# Altium footprint library Tag201_Rev4.PcbLib: 11 footprints
Each footprint in its own frame and in the unit in brackets; x right, y up, seen from the top. Pads: shape width x height; smd on the part's side, far side on the other; paste and mask are expansions set on the pad; w line width, h text height; cw(c..) or ccw(c..) is an arc to the next point about the centre after c.
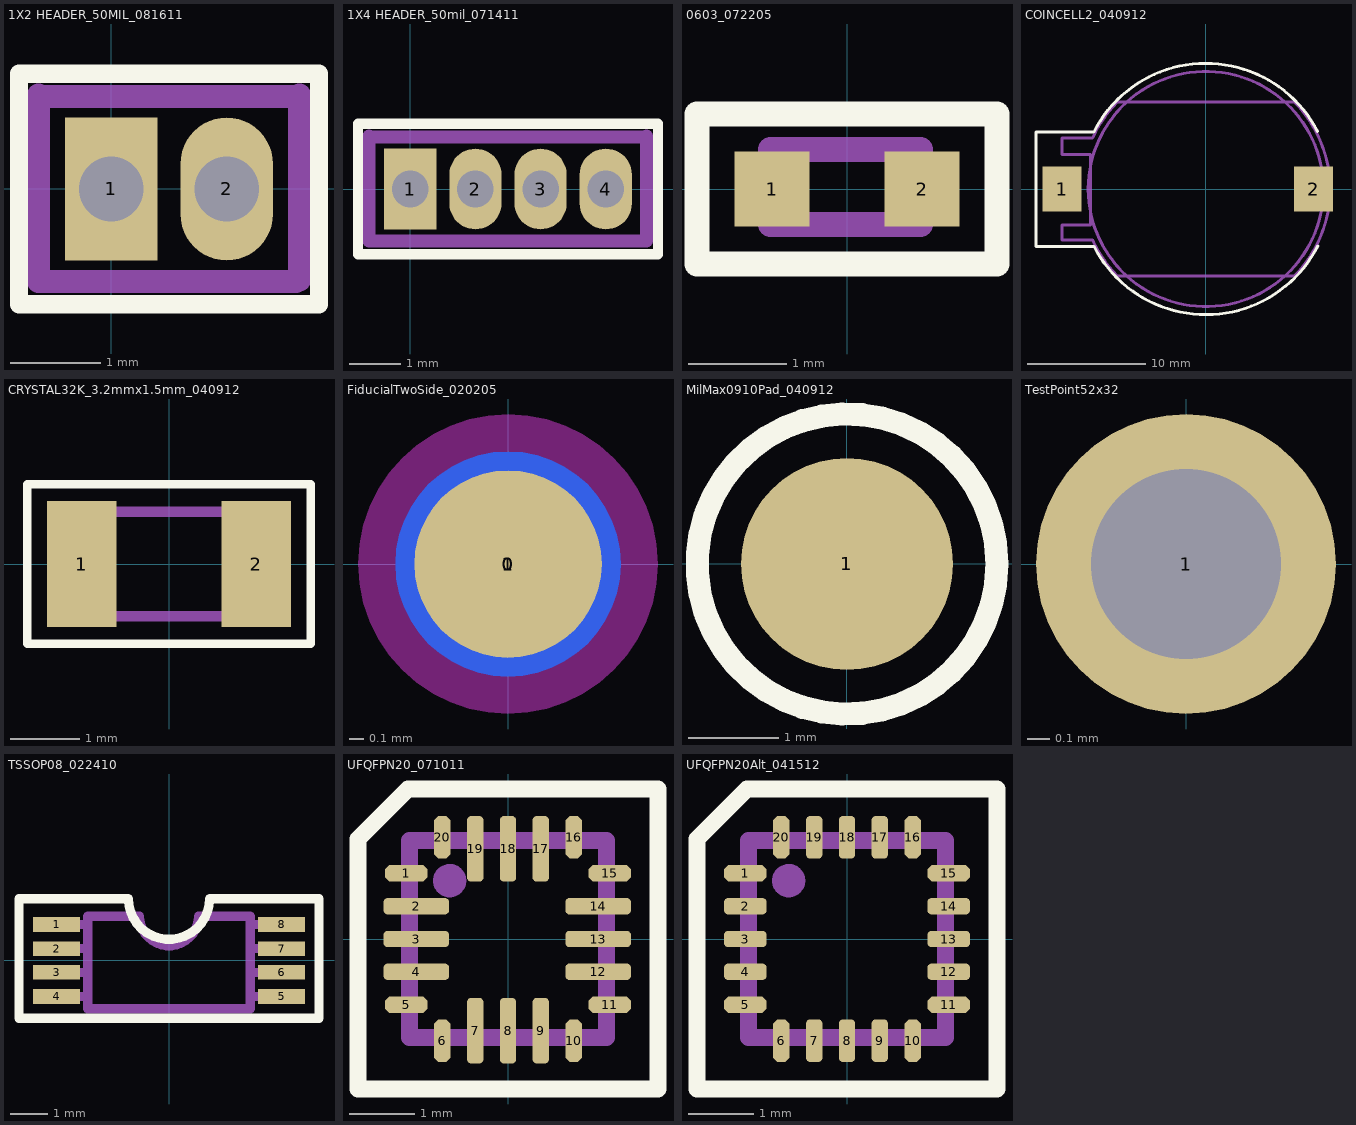
[diagram p0: the footprints below, top view; thin cyan lines are the x and y axes]

## 1X2 HEADER_50MIL_081611 [mil] "TH"
height 315
pads (2):
  rect 40x62 hole 28 mask+2: 1(0,0)
  oval 40x62 hole 28 mask+2: 2(50,0)
Top Overlay:
  lines w8: -40,-50 -40,50 90,50 90,-50 -40,-50
Mechanical 1:
  lines w10: -31.5,-39.37 -31.5,40.63 ; -31.5,40 80,40 ; 81.5,-39.37 81.5,40.63 ; -31.5,-40 80,-40 -31.5,-40 ; -7.87,-7.87 -7.87,7.87 7.87,7.87 7.87,-7.87 -7.87,-7.87 ; 42.13,-7.87 42.13,7.87 57.87,7.87 57.87,-7.87 42.13,-7.87
Mechanical 8:
  text ".Designator" at 2,57 h30
Mechanical 9:
  text ".Comment" at -45,-65 h10

## 1X4 HEADER_50mil_071411 [mil] "TH"
height 315
pads (4):
  rect 40x62 hole 28 mask+2: 1(0,0)
  oval 40x62 hole 28 mask+2: 2(50,0) 3(100,0) 4(150,0)
Top Overlay:
  lines w8: -40,-50 190,-50 190,50 -40,50 -40,-50
Mechanical 1:
  lines w10: -31.5,-40 181,-40 ; -31.5,-39.37 -31.5,40.63 ; -31.5,40 181,40 ; 181.1,-39.37 181.1,40.63 ; -7.87,-7.87 7.87,-7.87 7.87,7.87 -7.87,7.87 -7.87,-7.87 ; 42.13,-7.87 57.87,-7.87 57.87,7.87 42.13,7.87 42.13,-7.87 ; 92.13,-7.87 107.87,-7.87 107.87,7.87 92.13,7.87 92.13,-7.87 ; 142.13,-7.87 157.87,-7.87 157.87,7.87 142.13,7.87 142.13,-7.87
Mechanical 8:
  text ".Designator" at 94,92 h30
Mechanical 9:
  text ".Comment" at 25,-60 h10

## 0603_072205 [mil] "SM"
height 20
pads (2):
  rect 30x30 smd: 1(-30,0) 2(30,0)
Top Overlay:
  lines w10: -60,-30 60,-30 60,30 -60,30 -60,0 -60,-30
Mechanical 1:
  lines w10: -30.53,-14.25 -30.53,15.75 29.47,15.75 29.47,-14.25 -30.53,-14.25
Mechanical 8:
  text ".Designator" at 99,17 h30
Mechanical 9:
  text ".Comment" at -30.53,-4 h10

## COINCELL2_040912 [mil] "SMT"
height 190
pads (2):
  rect 130x150 smd: 1(-480,0) 2(360,0)
Top Overlay:
  lines w10: -567.52,189.65 -567.52,-192.48 -373.3,-192.48 ccw(c0,0) 374.66,-189.83 ; -567.52,189.83 -374.65,189.83 cw(c0,0) 373.3,192.48
Mechanical 1:
  circle w10: c0,0 r393
  lines w10: -378.48,-170.22 ccw(c0,0) -296.93,-289.93 ; -378.48,-170 -480,-170 -480,-120 -385,-120 -385,115 -480,115 -480,170 -377.97,170 ; -377.97,171.35 cw(c0,0) -297.41,289.43 ; -297.41,290 297,290 ; -297,-290 297,-290 ; 296.93,-289.93 ccw(c0,0) 296.93,289.93
Mechanical 8:
  text ".Designator" at -60,-15 h40
Mechanical 9:
  text ".Comment" at -265,-230 h40

## CRYSTAL32K_3.2mmx1.5mm_040912 [mm] "SMT"
height 0.9
pads (2):
  rect 1x1.8 smd: 1(-1.25,0) 2(1.25,0)
Top Overlay:
  lines w0.128: -2.032,-1.143 2.032,-1.143 2.032,1.143 -2.032,1.143 -2.032,-1.143
Mechanical 1:
  lines w0.15: -1.6,-0.75 -1.6,0.75 1.6,0.75 1.6,-0.75 -1.6,-0.75
Mechanical 8:
  text ".Designator" at -0.889,-2.134 h0.76
Mechanical 9:
  text ".Comment" at -1.016,-0.127 h0.25

## FiducialTwoSide_020205 [mil] "FEATURE SMT PCB"
height 100
pads (5):
  round 50 smd: 0(0,0)
  round 60 smd far side paste+0 mask+0: 0(0,0)
  round 70 on Top Solder: 0(0,0)
  round 80 on Keep-Out: 0(0,0)
  round 80 on Bottom Solder paste+0 mask+0: 1(0,0)

## MilMax0910Pad_040912 [mil] "SMT"
height 300
pads (1):
  round 92 smd: 1(0,0)
Top Overlay:
  circle w10: c0,0 r65
Mechanical 1:
  circle w10: c0,0 r20
  circle w10: c0,0 r40
Mechanical 8:
  text ".Designator" at -45,-109 h30
Mechanical 9:
  text ".Comment" at -35,55 h10

## TestPoint52x32 [mil] "SMT"
height 100
pads (1):
  round 52 hole 33: 1(0,0)

## TSSOP08_022410 [mil] "SMT"
height 50
pads (8):
  rect 50x15.5 smd mask+1.5: 1(-120,38.4) 2(-120,12.5) 3(-120,-12.5) 4(-120,-38.4) 5(120,-38.4) 6(120,-12.5) 7(120,12.5) 8(120,38.4)
Top Overlay:
  lines w10: -160,-61.61 160,-61.61 160,65.94 43.31,65.94 cw(c0,65.94) -43.31,65.94 -160,65.94 -160,-61.61
Mechanical 1:
  lines w10: -125.98,-38.39 -86.61,-38.39 ; -125.98,-12.79 -86.61,-12.79 ; -125.98,12.79 -86.61,12.79 ; -125.98,38.39 -86.61,38.39 ; -86.59,-51.61 86.61,-51.61 86.61,47.24 31.5,47.24 cw(c0,47.24) -31.5,47.24 -86.61,47.24 -86.61,-51.18 ; 86.61,-38.39 125.98,-38.39 ; 86.61,-12.79 125.98,-12.79 ; 86.61,12.79 125.98,12.79 ; 86.61,38.39 125.98,38.39
Mechanical 8:
  text ".Designator" at -65,20 h30
Mechanical 9:
  text ".Comment" at 55,-20 h10

## UFQFPN20_071011 [mm] "SMT"
height 0.508
pads (20):
  oct 0.65x0.25 smd mask+0.046: 1(-1.55,1) 5(-1.55,-1) 11(1.55,-1) 15(1.55,1)
  rrect50% 1x0.25 smd mask+0.051: 2(-1.397,0.5) 3(-1.397,0) 4(-1.397,-0.5) 12(1.373,-0.5) 13(1.373,0) 14(1.373,0.5)
  oct 0.25x0.65 smd mask+0.046: 6(-1,-1.55) 10(1,-1.55) 16(1,1.55) 20(-1,1.55)
  rrect50% 0.25x1 smd mask+0.051: 7(-0.5,-1.397) 8(0,-1.397) 9(0.5,-1.397) 17(0.5,1.373) 18(0,1.373) 19(-0.5,1.373)
Top Overlay:
  lines w0.254: -2.286,-2.286 -2.286,1.524 -1.524,2.286 2.286,2.286 2.286,-2.286 -2.286,-2.286
Mechanical 1:
  circle w0.254: c-0.889,0.889 r0.127
  lines w0.254: -1.5,-1.5 -1.5,1.5 1.5,1.5 1.5,-1.5 -1.5,-1.5
Mechanical 8:
  text ".Designator" at -0.508,-0.381 h0.76
Mechanical 9:
  text ".Comment" at -1.372,-2.032 h0.25

## UFQFPN20Alt_041512 [mm] "SMT"
height 0.508
pads (20):
  oct 0.65x0.25 smd mask+0.051: 1(-1.55,1) 5(-1.55,-1) 11(1.55,-1) 15(1.55,1)
  rrect50% 0.65x0.25 smd mask+0.051: 2(-1.55,0.5) 3(-1.55,0) 4(-1.55,-0.5) 12(1.55,-0.5) 13(1.55,0) 14(1.55,0.5)
  oct 0.25x0.65 smd mask+0.051: 6(-1,-1.55) 10(1,-1.55) 16(1,1.55) 20(-1,1.55)
  rrect50% 0.25x0.65 smd mask+0.051: 7(-0.5,-1.55) 8(0,-1.55) 9(0.5,-1.55) 17(0.5,1.55) 18(0,1.55) 19(-0.5,1.55)
Top Overlay:
  lines w0.254: -2.286,-2.286 -2.286,1.524 -1.524,2.286 2.286,2.286 2.286,-2.286 -2.286,-2.286
Mechanical 1:
  circle w0.254: c-0.889,0.889 r0.127
  lines w0.254: -1.5,-1.5 -1.5,1.5 1.5,1.5 1.5,-1.5 -1.5,-1.5
Mechanical 8:
  text ".Designator" at -0.508,-0.381 h0.76
Mechanical 9:
  text ".Comment" at -1.372,-2.032 h0.25